# EAGLE library part 690_357_28_8_76 (library SHC)
MM MALE SMT CONNECTOR WITHOUT LATCH AND WITHOUT POLARIZATION
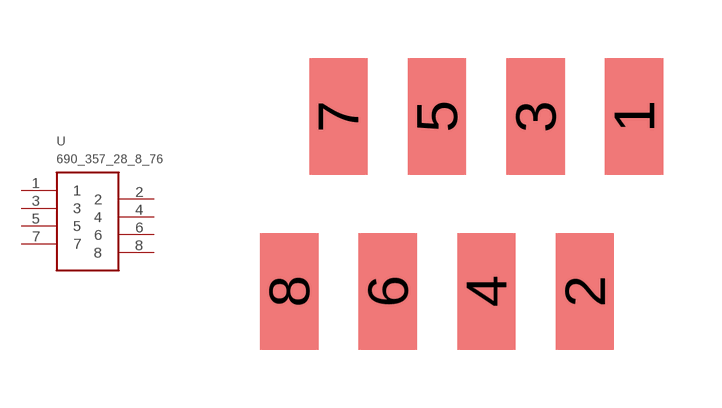
[diagram p16: symbol with the pads of 690_357_28_8_76; footprint 690_357_28_8_76]

Designator prefix -

## 690_357_28_8_76  [690_357_28_8_76]
1  1
2  2
3  3
4  4
5  5
6  6
7  7
8  8

## Footprint 690_357_28_8_76 (pad centres in mm)
smd 1.5 x 3: 1 4.12,2.5; 2 2.85,-2; 3 1.58,2.5; 4 0.31,-2; 5 -0.96,2.5; 6 -2.23,-2; 7 -3.5,2.5; 8 -4.77,-2